# Altium schematic symbol library S2B-XH-A(LF)(SN).SchLib: 1 symbol
Pins are listed as number, name and electrical type; pins without a type are passive.

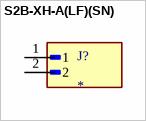
[diagram p0: symbol S2B-XH-A(LF)(SN)]

## S2B-XH-A(LF)(SN)
designator J?
Connector Header Through Hole, Right Angle 2 position 0.098 (2.50mm); MF: JST Sales; MP: S2B-XH-A(LF)(SN); SnapEDA_Link: https://www.snapeda.com/parts/S2B-XH-A(LF)(SN)/JST/view-part/?ref=snap; Package: None; Value: *; Check_prices: https://www.snapeda.com/parts/S2B-XH-A(LF)(SN)/JST/view-part/?ref=eda
footprint JST_S2B-XH-A(LF)(SN)
pins: 1, 2